# Altium schematic symbol library ISeniorDesign.SchLib: 14 symbols
Pins are listed as number, name and electrical type; pins without a type are passive.

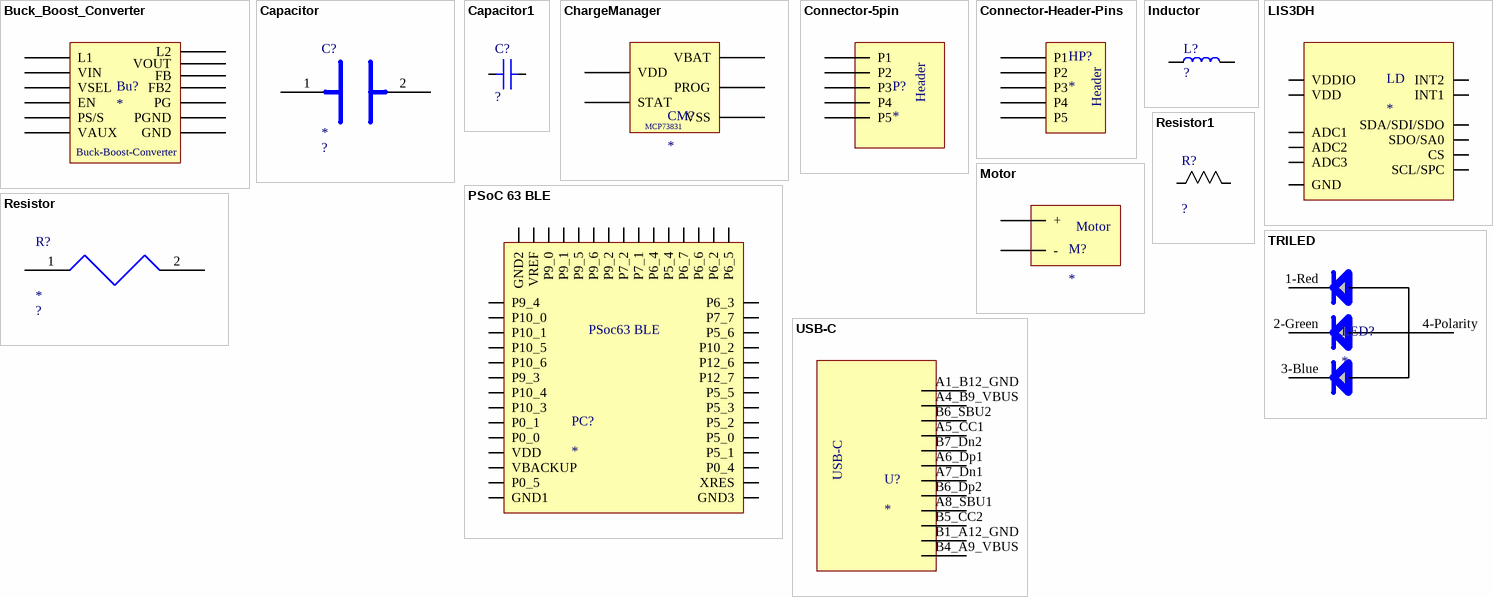
[diagram p0: symbols Buck_Boost_Converter to USB-C]

## Buck_Boost_Converter
designator Bu?
footprint Buck_Boost_Converter (Buck Boost Converter)
pins: EN, FB, FB2, GND, L1, L2, PG, PGND, PS/S, VAUX, VIN, VOUT, VSEL
text: Buck-Boost-Converter

## Capacitor
designator C?
Value: ?
footprint PASSIVE-CAPACITOR-0603
pins: 1, 2

## Capacitor1
designator C?  (value not drawn)
Value: ?
footprint PASSIVE-CAPACITOR-0603
pins: 1, 2

## ChargeManager
designator CM?
footprint Charger-Manager-Team-7
pins: PROG, STAT, VBAT, VDD, VSS
text: MCP73831

## Connector-5pin
designator P?
footprint CONNECTOR-HEADER-PINS
pins: 1 P1, 2 P2, 3 P3, 4 P4, 5 P5
text: Header

## Connector-Header-Pins
designator HP?
footprint CONNECTOR-HEADER-PINS
pins: 1 P1, 2 P2, 3 P3, 4 P4, 5 P5
text: Header

## Inductor
designator L?  (value not drawn)
Value: ?
footprint PASSIVE-INDUCTOR-0603 (Inductor)
pins: 1, 2

## LIS3DH
designator LD
LIS3DH
footprint LIS3DH
pins: ADC1, ADC2, ADC3, CS, GND, INT1, INT2, SCL/SPC, SDA/SDI/SDO, SDO/SA0, VDD, VDDIO

## Motor
designator M?
footprint Motor
pins: 1 +, 2 -

## PSoC 63 BLE
designator PC?
footprint PSoC-63 BLE
pins: 1 GND1, 2 P0_5, 3 VBACKUP, 4 VDD, 5 P0_0, 6 P0_1, 7 P10_3, 8 P10_4, 9 P9_3, 10 P10_6, 11 P10_5, 12 P10_1, 13 P10_0, 14 P9_4, 15 GND2, 16 VREF, 17 P9_0, 18 P9_1, 19 P9_5, 20 P9_6, 21 P9_2, 22 P7_2, 23 P7_1, 24 P6_4, 25 P5_4, 26 P6_7, 27 P6_6, 28 P6_2, 29 P6_5, 30 P6_3, 31 P7_7, 32 P5_6, 33 P10_2, 34 P12_6, 35 P12_7, 36 P5_5, 37 P5_3, 38 P5_2, 39 P5_0, 40 P5_1, 41 P0_4, 42 XRES, 43 GND3
text: PSoc63 BLE

## Resistor
designator R?
Value: ?
footprint Passive-Resistor
pins: 1, 2

## Resistor1
designator R?, comment Resistor  (value not drawn)
Value: ?
footprint PASSIVE-RESISTOR-0603
pins: 1, 2

## TRILED
designator LED?
footprint LTST-C19HE1WT-Team-7
pins: 1-Red, 2-Green, 3-Blue, 4-Polarity

## USB-C
designator U?
footprint USB-C-Team-7
pins: A1_B12_GND, A4_B9_VBUS, A5_CC1, A6_Dp1, A7_Dn1, A8_SBU1, B1_A12_GND, B4_A9_VBUS, B5_CC2, B6_Dp2, B6_SBU2, B7_Dn2